# EAGLE library part EDE300 (library ede)
Parallel/Serial Transceiver
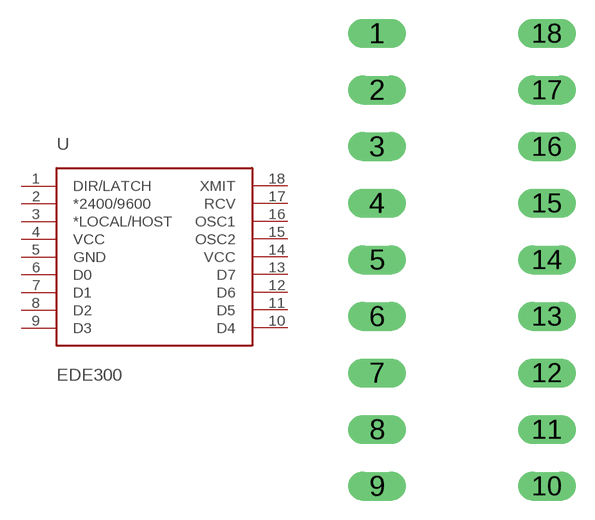
[diagram p2: symbol with the pads of DIP18; footprint DIP18]

Designator prefix U

## EDE300  [DIP18]
1  DIR/LATCH
2  *2400/9600
3  *LOCAL/HOST
4  VCC
5  GND
6  D0
7  D1
8  D2
9  D3
10  D4
11  D5
12  D6
13  D7
14  VCC
15  OSC2
16  OSC1
17  RCV
18  XMIT

## Footprint DIP18 (pad centres in mm)
drill 0.8 long: 1 -3.81,10.16; 2 -3.81,7.62; 3 -3.81,5.08; 4 -3.81,2.54; 5 -3.81,0; 6 -3.81,-2.54; 7 -3.81,-5.08; 8 -3.81,-7.62; 9 -3.81,-10.16; 10 3.81,-10.16; 11 3.81,-7.62; 12 3.81,-5.08; 13 3.81,-2.54; 14 3.81,0; 15 3.81,2.54; 16 3.81,5.08; 17 3.81,7.62; 18 3.81,10.16